# Altium footprint library MitchSwitch_Bypass.PCBLIB: 270 footprints (part 15 of 17)
Each footprint in its own frame and in the unit in brackets; x right, y up, seen from the top. Pads: shape width x height; smd on the part's side, far side on the other; paste and mask are expansions set on the pad; w line width, h text height; cw(c..) or ccw(c..) is an arc to the next point about the centre after c.
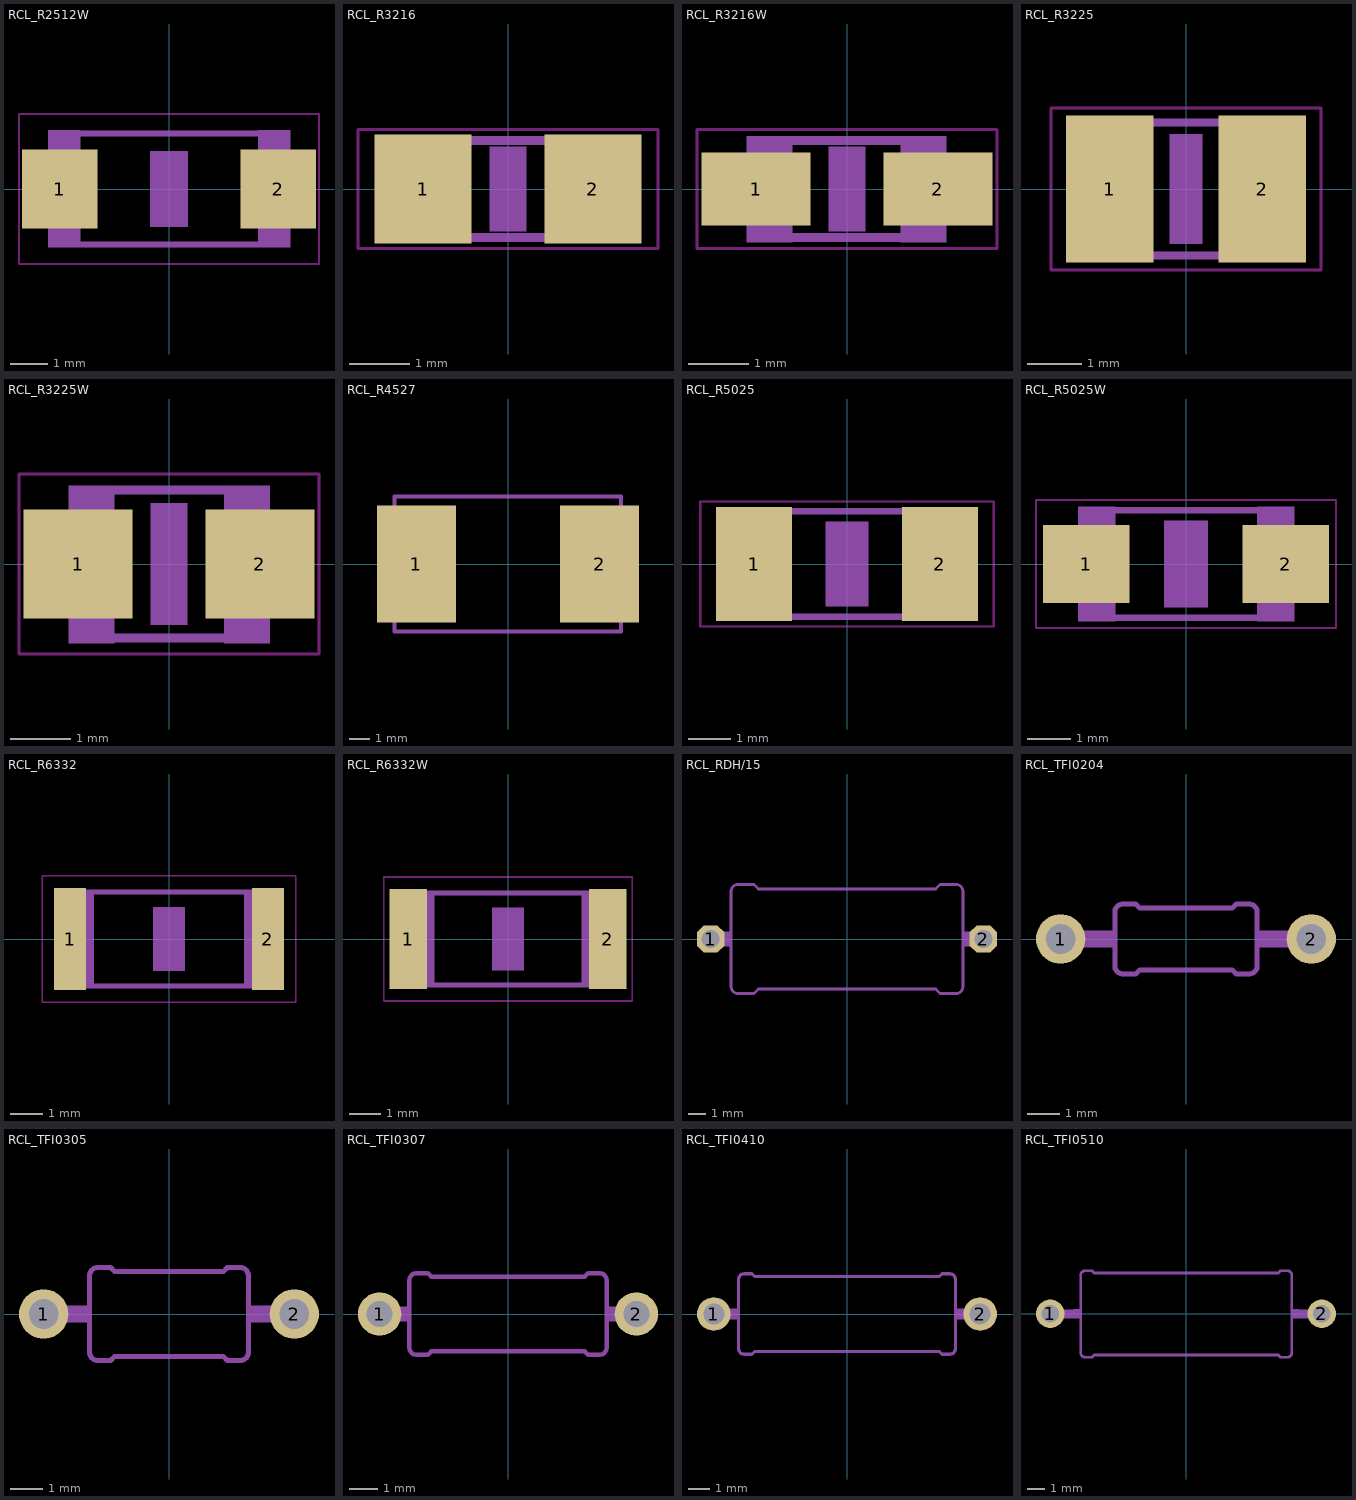
[diagram p14: the footprints below, top view; thin cyan lines are the x and y axes]

## RCL_R2512W [mm]
pads (2):
  rect 2x2.1 smd: 1(-2.896,0) 2(2.896,0)
Top Layer keep-out:
  lines w0.051: -3.973,-1.983 3.973,-1.983 3.973,1.983 -3.973,1.983 -3.973,-1.983
Mechanical 3:
  region: -3.2,-1.549 -3.2,1.551 -2.351,1.551 -2.351,-1.549
  region: 2.362,-1.549 2.362,1.551 3.212,1.551 3.212,-1.549
  lines w0.152: -2.362,-1.473 2.387,-1.473 ; -2.362,1.473 2.387,1.473
Top Glue Points:
  region: -0.5,-1 -0.5,1 0.5,1 0.5,-1

## RCL_R3216 [mil]
pads (2):
  rect 62.99x70.87 smd: 1(-55.12,0) 2(55.12,0)
Top Layer keep-out:
  lines w2: -97.36,-38.7 97.36,-38.7 97.36,38.7 -97.36,38.7 -97.36,-38.7
Mechanical 3:
  region: -65,-34.5 -65,34.4 -35.47,34.4 -35.47,-34.5
  region: 35,-34.5 35,34.4 64.53,34.4 64.53,-34.5
  lines w6: -35.94,-31.5 34.96,-31.5 ; -35.94,31.5 34.96,31.5
Top Glue Points:
  region: -11.81,-27.56 -11.81,27.56 11.81,27.56 11.81,-27.56

## RCL_R3216W [mil]
pads (2):
  rect 70.87x47.24 smd: 1(-59.02,0) 2(59.02,0)
Top Layer keep-out:
  lines w2: -97.36,-38.7 97.36,-38.7 97.36,38.7 -97.36,38.7 -97.36,-38.7
Mechanical 3:
  region: -65,-34.5 -65,34.4 -35.47,34.4 -35.47,-34.5
  region: 35,-34.5 35,34.4 64.53,34.4 64.53,-34.5
  lines w6: -35.94,-31.5 34.96,-31.5 ; -35.94,31.5 34.96,31.5
Top Glue Points:
  region: -11.81,-27.56 -11.81,27.56 11.81,27.56 11.81,-27.56

## RCL_R3225 [mil]
pads (2):
  rect 62.99x106.3 smd: 1(-55.12,0) 2(55.12,0)
Top Layer keep-out:
  lines w2: -97.36,-58.39 97.36,-58.39 97.36,58.39 -97.36,58.39 -97.36,-58.39
Mechanical 3:
  region: -65,-51.5 -65,50.86 -35.47,50.86 -35.47,-51.5
  region: 36,-51.5 36,50.86 65.53,50.86 65.53,-51.5
  lines w6: -35.94,-47.99 36.97,-47.99 ; -35.94,47.99 36.97,47.99
Top Glue Points:
  region: -11.81,-39.37 -11.81,39.37 11.81,39.37 11.81,-39.37

## RCL_R3225W [mil]
pads (2):
  rect 70.87x70.87 smd: 1(-59.02,0) 2(59.02,0)
Top Layer keep-out:
  lines w2: -97.36,-58.39 97.36,-58.39 97.36,58.39 -97.36,58.39 -97.36,-58.39
Mechanical 3:
  region: -65,-51.5 -65,50.86 -35.47,50.86 -35.47,-51.5
  region: 36,-51.5 36,50.86 65.53,50.86 65.53,-51.5
  lines w6: -35.94,-47.99 36.97,-47.99 ; -35.94,47.99 36.97,47.99
Top Glue Points:
  region: -11.81,-39.37 -11.81,39.37 11.81,39.37 11.81,-39.37

## RCL_R4527 [mil]
pads (2):
  rect 155.12x229.92 smd: 1(-180.12,0) 2(180.12,0)
Mechanical 3:
  lines w8: -223.43,-132.87 -223.43,132.87 ; 222.44,-132.87 222.44,132.87
Mechanical 7:
  lines w8: -223.43,-132.87 222.44,-132.87 ; -223.43,132.87 222.44,132.87

## RCL_R5025 [mil]
pads (2):
  rect 70.87x106.3 smd: 1(-86.61,0) 2(86.61,0)
Top Layer keep-out:
  lines w2: -136.73,-58.39 136.73,-58.39 136.73,58.39 -136.73,58.39 -136.73,-58.39
Mechanical 3:
  region: -98,-52 -98,52.33 -64.54,52.33 -64.54,-52
  region: 65,-52 65,52.33 98.46,52.33 98.46,-52
  lines w6: -65.43,49.02 65.43,49.02 ; -64.45,-49.02 66.42,-49.02
Top Glue Points:
  region: -19.69,-39.37 -19.69,39.37 19.69,39.37 19.69,-39.37

## RCL_R5025W [mm]
pads (2):
  rect 2x1.8 smd: 1(-2.311,0) 2(2.311,0)
Top Layer keep-out:
  lines w0.051: -3.473,-1.483 3.473,-1.483 3.473,1.483 -3.473,1.483 -3.473,-1.483
Mechanical 3:
  region: -2.489,-1.321 -2.489,1.329 -1.639,1.329 -1.639,-1.321
  region: 1.651,-1.321 1.651,1.329 2.501,1.329 2.501,-1.321
  lines w0.152: -1.662,1.245 1.662,1.245 ; -1.637,-1.245 1.687,-1.245
Top Glue Points:
  region: -0.5,-1 -0.5,1 0.5,1 0.5,-1

## RCL_R6332 [mm]
pads (2):
  rect 1x3.2 smd: 1(-3.1,0) 2(3.1,0)
Top Layer keep-out:
  lines w0.051: -3.973,-1.983 3.973,-1.983 3.973,1.983 -3.973,1.983 -3.973,-1.983
Mechanical 3:
  region: -3.2,-1.549 -3.2,1.551 -2.351,1.551 -2.351,-1.549
  region: 2.362,-1.549 2.362,1.551 3.212,1.551 3.212,-1.549
  lines w0.152: -2.362,-1.473 2.387,-1.473 ; -2.362,1.473 2.387,1.473
Top Glue Points:
  region: -0.5,-1 -0.5,1 0.5,1 0.5,-1

## RCL_R6332W [mil]
pads (2):
  rect 47.24x125.98 smd: 1(-125.83,0) 2(125.83,0)
Top Layer keep-out:
  lines w2: -156.42,-78.07 156.42,-78.07 156.42,78.07 -156.42,78.07 -156.42,-78.07
Mechanical 3:
  region: -126,-61 -126,61.05 -92.54,61.05 -92.54,-61
  region: 93,-61 93,61.05 126.46,61.05 126.46,-61
  lines w6: -92.99,-57.99 93.98,-57.99 ; -92.99,57.99 93.98,57.99
Top Glue Points:
  region: -19.69,-39.37 -19.69,39.37 19.69,39.37 19.69,-39.37

## RCL_RDH/15 [mil]
pads (2):
  oct 60x60 / inner round 55.43 / far side oct 60x60 hole 40: 1(-300,0) 2(300,0)
Mechanical 3:
  region: -266,-16 -266,16 -254,16 -254,-16
  region: 254,-16 254,16 266,16 266,-16
  lines w6: -255,-40 -255,40 ; 255,-40 255,40
  lines w32: -300,0 -270,0 ; 270,0 300,0
  text "RDH" at 180,-68 h77.5
Mechanical 7:
  lines w6: -255,-40 -255,-105 ccw(c-240,-105) -240,-120 -205,-120 -195,-110 195,-110 205,-120 240,-120 ccw(c240,-105) 255,-105 255,-40 ; -255,40 -255,105 cw(c-240,105) -240,120 -205,120 -195,110 195,110 205,120 240,120 cw(c240,105) 255,105 255,40

## RCL_TFI0204 [mil]
pads (2):
  round 59.06 hole 35.43: 1(-150,0) 2(150,0)
Mechanical 3:
  lines w20: -150,0 -100,0 ; 100,0 150,0
Mechanical 7:
  region: 85.24,-10 85.24,10 100.24,10 100.24,-10
  region: -100.24,-10 -100.24,10 -85.24,10 -85.24,-10
  lines w6: -85.24,-31.97 ccw(c-75.24,-31.97) -75.24,-41.97 -60.24,-41.97 -55.24,-36.97 55.24,-36.97 60.24,-41.97 75.24,-41.97 ccw(c75.24,-31.97) 85.24,-31.97 85.24,31.97 ccw(c75.24,31.97) 75.24,41.97 60.24,41.97 55.24,36.97 -55.24,36.97 -60.24,41.97 -75.24,41.97 ccw(c-75.24,31.97) -85.24,31.97 -85.24,-31.97

## RCL_TFI0305 [mil]
pads (2):
  round 59.06 hole 35.43: 1(-150,0) 2(150,0)
Mechanical 3:
  lines w20: -150,0 -109.84,0 ; 109.84,0 150,0
Mechanical 7:
  region: 95.08,-10 95.08,10 110.08,10 110.08,-10
  region: -110.08,-10 -110.08,10 -95.08,10 -95.08,-10
  lines w6: -95.08,-45.75 ccw(c-85.08,-45.75) -85.08,-55.75 -70.08,-55.75 -65.08,-50.75 65.08,-50.75 70.08,-55.75 85.08,-55.75 ccw(c85.08,-45.75) 95.08,-45.75 95.08,45.75 ccw(c85.08,45.75) 85.08,55.75 70.08,55.75 65.08,50.75 -65.08,50.75 -70.08,55.75 -85.08,55.75 ccw(c-85.08,45.75) -95.08,45.75 -95.08,-45.75

## RCL_TFI0307 [mil]
pads (2):
  round 59.06 hole 35.43: 1(-175,0) 2(175,0)
Mechanical 3:
  lines w20: -175,0 -149.21,0 ; 149.21,0 175,0
Mechanical 7:
  region: 134.45,-10 134.45,10 149.45,10 149.45,-10
  region: -149.45,-10 -149.45,10 -134.45,10 -134.45,-10
  lines w6: -134.45,-45.75 ccw(c-124.45,-45.75) -124.45,-55.75 -109.45,-55.75 -104.45,-50.75 104.45,-50.75 109.45,-55.75 124.45,-55.75 ccw(c124.45,-45.75) 134.45,-45.75 134.45,45.75 ccw(c124.45,45.75) 124.45,55.75 109.45,55.75 104.45,50.75 -104.45,50.75 -109.45,55.75 -124.45,55.75 ccw(c-124.45,45.75) -134.45,45.75 -134.45,-45.75

## RCL_TFI0410 [mm]
pads (2):
  round 1.6 hole 1: 1(-6.35,0) 2(6.35,0)
Mechanical 3:
  lines w0.508: -6.35,0 -5.54,0 ; 5.54,0 6.35,0
Mechanical 7:
  region: 5.165,-0.254 5.165,0.254 5.546,0.254 5.546,-0.254
  region: -5.546,-0.254 -5.546,0.254 -5.165,0.254 -5.165,-0.254
  lines w0.152: -5.165,-1.662 ccw(c-4.911,-1.662) -4.911,-1.916 -4.53,-1.916 -4.403,-1.789 4.403,-1.789 4.53,-1.916 4.911,-1.916 ccw(c4.911,-1.662) 5.165,-1.662 5.165,1.662 ccw(c4.911,1.662) 4.911,1.916 4.53,1.916 4.403,1.789 -4.403,1.789 -4.53,1.916 -4.911,1.916 ccw(c-4.911,1.662) -5.165,1.662 -5.165,-1.662

## RCL_TFI0510 [mm]
pads (2):
  round 1.6 hole 1: 1(-7.62,0) 2(7.62,0)
Mechanical 3:
  lines w0.508: -7.62,0 -6.29,0 ; 6.315,0 7.62,0
Mechanical 7:
  region: 5.94,-0.254 5.94,0.254 6.321,0.254 6.321,-0.254
  region: -6.296,-0.254 -6.296,0.254 -5.915,0.254 -5.915,-0.254
  lines w0.152: -5.915,-2.187 ccw(c-5.661,-2.187) -5.661,-2.441 -5.28,-2.441 -5.153,-2.314 5.178,-2.314 5.305,-2.441 5.686,-2.441 ccw(c5.686,-2.187) 5.94,-2.187 5.94,2.162 ccw(c5.686,2.162) 5.686,2.416 5.305,2.416 5.178,2.289 -5.153,2.289 -5.28,2.416 -5.661,2.416 ccw(c-5.661,2.162) -5.915,2.162 -5.915,-2.187